# Altium integrated library Analog Devices Switches and Multiplexers Analog Switches.IntLib: 575 symbols (part 11 of 23)
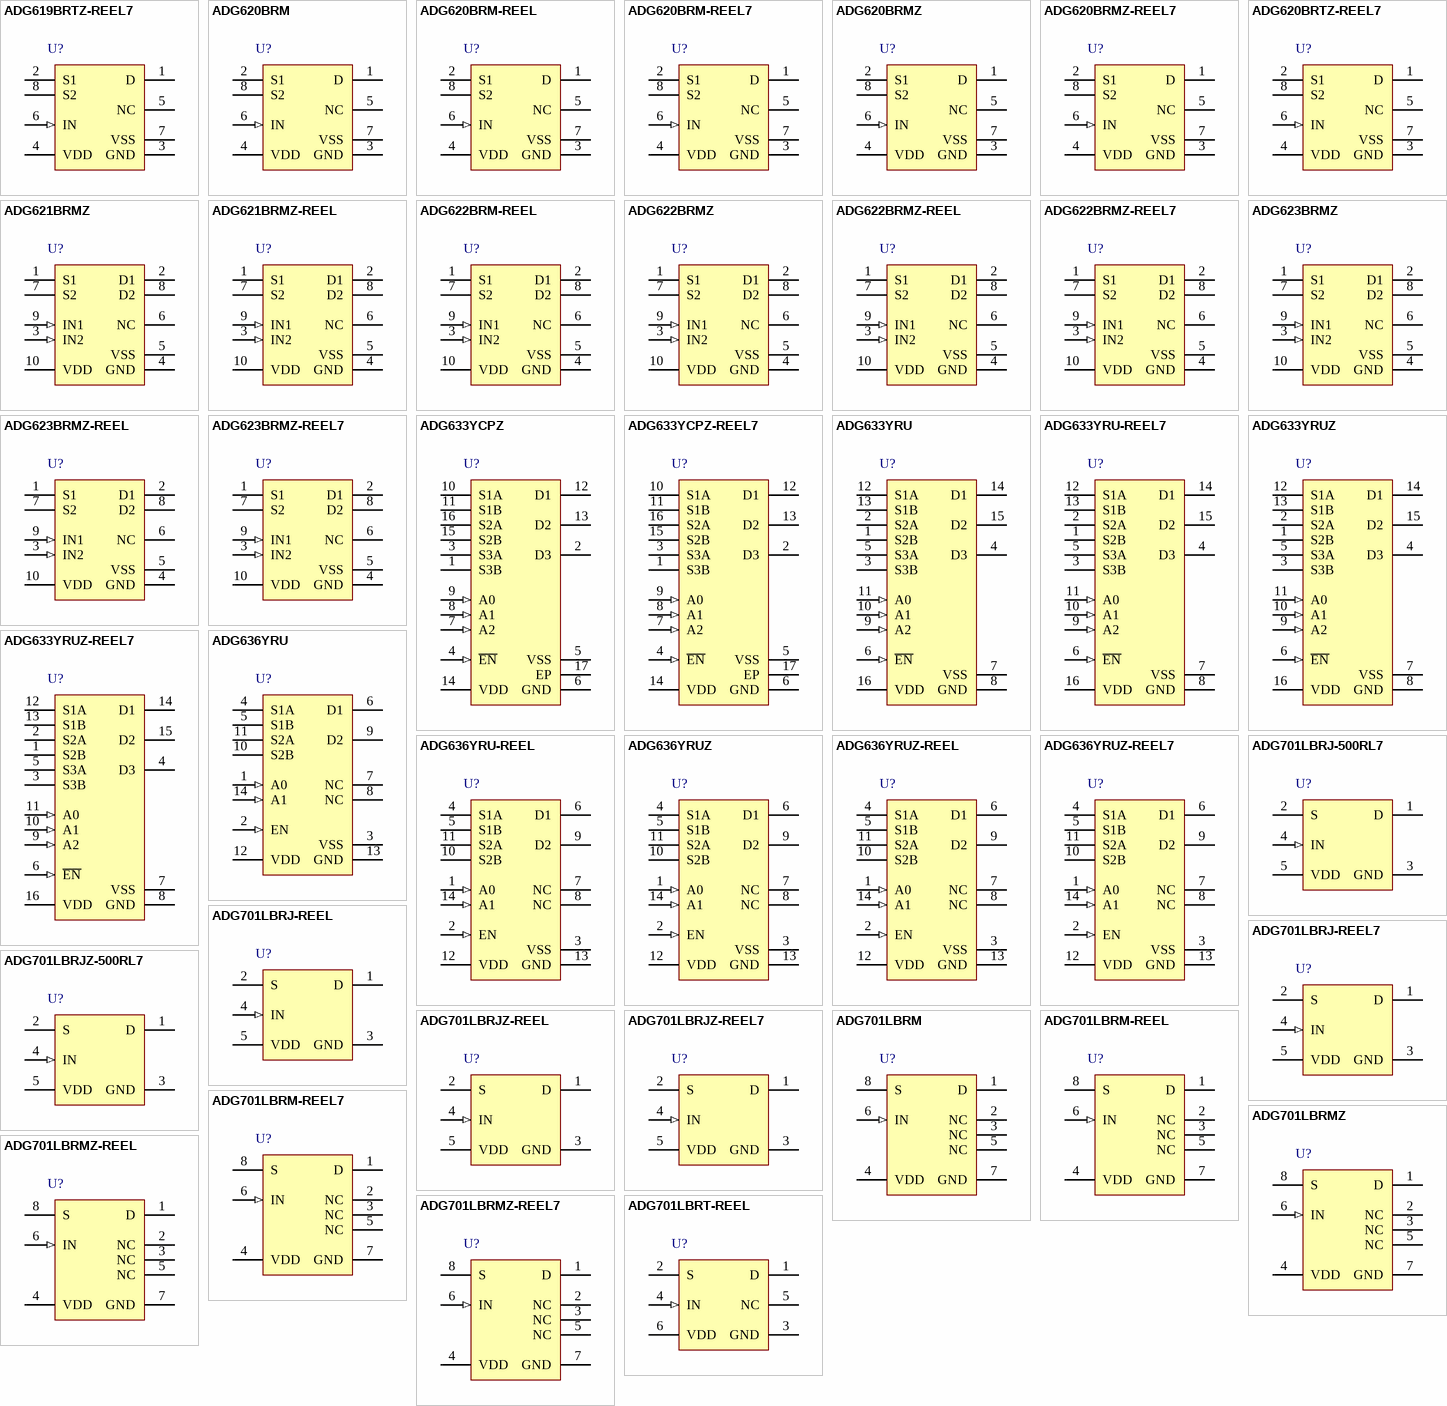
[diagram p25: symbols ADG619BRTZ-REEL7 to ADG701LBRT-REEL]

## ADG620BRM-REEL7
designator U?
CMOS, +/-5 V / +5 V, 4 Ohm, Single SPDT Switch, -40 to 85 degC, 8-pin SOP (RM-8), Reel; Manufacturer: Analog Devices; PartNumber: ADG620BRM-REEL7; Id, Is (ON): 10pA, 10pA; Max Pos Supply: 5.5V; Min Pos Supply: 2.7V; Power Dissipation: 10uW; Ron (ohms): 4; DatasheetVersion: Rev. C; PackageVersion: Aug-05; PackageReference: RM-8; PackageDescription: 8-Pin Mini Small Outline Package, Body 3 x 3 mm, Pitch 0.65 mm; Supplier 1: Digi-Key; Supplier Part Number 1: ADG620BRM-REEL7-ND; Configuration: SPDT; Is OFF: 10pA, 10pA; Packing: Reel; Mounting Technology: Surface Mount; Code_JEDEC: MO-187-AA; ComponentLink1Description: Manufacturer URL; ComponentLink1URL: http://www.analog.com/en/index.html; ComponentLink2Description: Datasheet; ComponentLink2URL: http://www.analog.com/static/imported-files/data_sheets/ADG619_620.pdf; ComponentLink3Description: Package Specification; ComponentLink3URL: http://www.analog.com/static/imported-files/packages/PKG_PDF/MSOP%28RM%29/RM_8.pdf
footprint ADI-RM-8_N (SOP, 8-Leads, Body 3x3mm, Pitch 0.65mm, IPC Medium Density)
footprint ADI-RM-8_L (SOP, 8-Leads, Body 3x3mm, Pitch 0.65mm, IPC High Density)
footprint ADI-RM-8_M (SOP, 8-Leads, Body 3x3mm, Pitch 0.65mm, IPC Low Density)
pins: 1 D "Drain Terminal. Can be an input or output.", 2 S1 "Source Terminal. Can be an input or output.", 3 GND (power) "Ground (0 V) Reference.", 4 VDD (power) "Most Positive Power Supply.", 5 NC "No Connect. Not internally connected.", 6 IN (in) "Logic Control Input.", 7 VSS (power) "Most Negative Power Supply. This pin is only used in dual-supply applications and should be tied to ground in single-supply applications.", 8 S2 "Source Terminal. Can be an input or output."

## ADG620BRMZ
designator U?
CMOS, +/-5 V / +5 V, 4 Ohm, Single SPDT Switch, -40 to 85 degC, 8-pin SOP (RM-8), Tube; Manufacturer: Analog Devices; PartNumber: ADG620BRMZ; Id, Is (ON): 10pA, 10pA; Max Pos Supply: 5.5V; Min Pos Supply: 2.7V; Power Dissipation: 10uW; Ron (ohms): 4; DatasheetVersion: Rev. C; PackageVersion: Aug-05; PackageReference: RM-8; PackageDescription: 8-Pin Mini Small Outline Package, Body 3 x 3 mm, Pitch 0.65 mm; Supplier 1: Digi-Key; Supplier Part Number 1: ADG620BRMZ-ND; Supplier 2: Farnell; Supplier Part Number 2: 1438889; Supplier 3: Newark; Supplier Part Number 3: 12M7816; Configuration: SPDT; Is OFF: 10pA, 10pA; Packing: Tube; Mounting Technology: Surface Mount; Code_JEDEC: MO-187-AA; ComponentLink1Description: Manufacturer URL; ComponentLink1URL: http://www.analog.com/en/index.html; ComponentLink2Description: Datasheet; ComponentLink2URL: http://www.analog.com/static/imported-files/data_sheets/ADG619_620.pdf; ComponentLink3Description: Package Specification; ComponentLink3URL: http://www.analog.com/static/imported-files/packages/PKG_PDF/MSOP%28RM%29/RM_8.pdf
footprint ADI-RM-8_N (SOP, 8-Leads, Body 3x3mm, Pitch 0.65mm, IPC Medium Density)
footprint ADI-RM-8_L (SOP, 8-Leads, Body 3x3mm, Pitch 0.65mm, IPC High Density)
footprint ADI-RM-8_M (SOP, 8-Leads, Body 3x3mm, Pitch 0.65mm, IPC Low Density)
pins: 1 D "Drain Terminal. Can be an input or output.", 2 S1 "Source Terminal. Can be an input or output.", 3 GND (power) "Ground (0 V) Reference.", 4 VDD (power) "Most Positive Power Supply.", 5 NC "No Connect. Not internally connected.", 6 IN (in) "Logic Control Input.", 7 VSS (power) "Most Negative Power Supply. This pin is only used in dual-supply applications and should be tied to ground in single-supply applications.", 8 S2 "Source Terminal. Can be an input or output."

## ADG620BRMZ-REEL7
designator U?
CMOS, +/-5 V / +5 V, 4 Ohm, Single SPDT Switch, -40 to 85 degC, 8-pin SOP (RM-8), Reel; Manufacturer: Analog Devices; PartNumber: ADG620BRMZ-REEL7; Id, Is (ON): 10pA, 10pA; Max Pos Supply: 5.5V; Min Pos Supply: 2.7V; Power Dissipation: 10uW; Ron (ohms): 4; DatasheetVersion: Rev. C; PackageVersion: Aug-05; PackageReference: RM-8; PackageDescription: 8-Pin Mini Small Outline Package, Body 3 x 3 mm, Pitch 0.65 mm; Supplier 1: Digi-Key; Supplier Part Number 1: ADG620BRMZ-REEL7-ND; Supplier 2: Newark; Supplier Part Number 2: 61M3940; Configuration: SPDT; Is OFF: 10pA, 10pA; Packing: Reel; Mounting Technology: Surface Mount; Code_JEDEC: MO-187-AA; ComponentLink1Description: Manufacturer URL; ComponentLink1URL: http://www.analog.com/en/index.html; ComponentLink2Description: Datasheet; ComponentLink2URL: http://www.analog.com/static/imported-files/data_sheets/ADG619_620.pdf; ComponentLink3Description: Package Specification; ComponentLink3URL: http://www.analog.com/static/imported-files/packages/PKG_PDF/MSOP%28RM%29/RM_8.pdf
footprint ADI-RM-8_N (SOP, 8-Leads, Body 3x3mm, Pitch 0.65mm, IPC Medium Density)
footprint ADI-RM-8_L (SOP, 8-Leads, Body 3x3mm, Pitch 0.65mm, IPC High Density)
footprint ADI-RM-8_M (SOP, 8-Leads, Body 3x3mm, Pitch 0.65mm, IPC Low Density)
pins: 1 D "Drain Terminal. Can be an input or output.", 2 S1 "Source Terminal. Can be an input or output.", 3 GND (power) "Ground (0 V) Reference.", 4 VDD (power) "Most Positive Power Supply.", 5 NC "No Connect. Not internally connected.", 6 IN (in) "Logic Control Input.", 7 VSS (power) "Most Negative Power Supply. This pin is only used in dual-supply applications and should be tied to ground in single-supply applications.", 8 S2 "Source Terminal. Can be an input or output."

## ADG620BRTZ-REEL7
designator U?
CMOS, +/-5 V / +5 V, 4 Ohm, Single SPDT Switch, -40 to 85 degC, 8-pin SOT (RJ-8), Reel; Manufacturer: Analog Devices; PartNumber: ADG620BRTZ-REEL7; Id, Is (ON): 10pA, 10pA; Max Pos Supply: 5.5V; Min Pos Supply: 2.7V; Power Dissipation: 10uW; Ron (ohms): 4; DatasheetVersion: Rev. C; PackageVersion: 121608-A, 12/2008; PackageReference: RJ-8; PackageDescription: 8-Pin Small Outline Transistor Package, Body 2.9 x 1.6 mm, Pitch 0.65 mm; Supplier 1: Digi-Key; Supplier Part Number 1: ADG620BRTZ-REEL7TR-ND; Supplier 2: Digi-Key; Supplier Part Number 2: ADG620BRTZ-REEL7CT-ND; Supplier 3: Digi-Key; Supplier Part Number 3: ADG620BRTZ-REEL7DKR-ND; Supplier 4: Newark; Supplier Part Number 4: 12M7817; Configuration: SPDT; Is OFF: 10pA, 10pA; Packing: Reel; Mounting Technology: Surface Mount; Code_JEDEC: MO-178-BA; ComponentLink1Description: Manufacturer URL; ComponentLink1URL: http://www.analog.com/en/index.html; ComponentLink2Description: Datasheet; ComponentLink2URL: http://www.analog.com/static/imported-files/data_sheets/ADG619_620.pdf; ComponentLink3Description: Package Specification; ComponentLink3URL: http://www.analog.com/static/imported-files/packages/PKG_PDF/SOT-23(RJ)/RJ_8.pdf
footprint ADI-RJ-8_V (SOT23, 8-Leads, Body 2.9x1.6mm, Pitch 0.65mm)
pins: 1 D "Drain Terminal. Can be an input or output.", 2 S1 "Source Terminal. Can be an input or output.", 3 GND (power) "Ground (0 V) Reference.", 4 VDD (power) "Most Positive Power Supply.", 5 NC "No Connect. Not internally connected.", 6 IN (in) "Logic Control Input.", 7 VSS (power) "Most Negative Power Supply. This pin is only used in dual-supply applications and should be tied to ground in single-supply applications.", 8 S2 "Source Terminal. Can be an input or output."

## ADG621BRMZ
designator U?
CMOS +/-5 V / +5 V, 4 Ohm Dual SPST Switch, -40 to 85 degC, 10-pin SOP (RM-10), Tube; Manufacturer: Analog Devices; PartNumber: ADG621BRMZ; Id, Is (ON): 10pA, 10pA; Max Pos Supply: 5.5V; Min Pos Supply: 2.7V; Ron (ohms): 4; DatasheetVersion: Rev. B; PackageVersion: Aug-05; PackageReference: RM-10; PackageDescription: 10-Pin Mini Small Outline Package, Body 3 x 3 mm, Pitch 0.5 mm; Supplier 1: Digi-Key; Supplier Part Number 1: ADG621BRMZ-ND; Supplier 2: Farnell; Supplier Part Number 2: 1438891; Supplier 3: Newark; Supplier Part Number 3: 59K1443; Supplier 4: Mouser; Supplier Part Number 4: 584-ADG621BRMZ; Configuration: SPST; Is OFF: 10pA, 10pA; Packing: Tube; Mounting Technology: Surface Mount; Code_JEDEC: MO-187-BA; ComponentLink1Description: Manufacturer URL; ComponentLink1URL: http://www.analog.com/en/index.html; ComponentLink2Description: Datasheet; ComponentLink2URL: http://www.analog.com/static/imported-files/data_sheets/ADG621_622_623.pdf; ComponentLink3Description: Package Specification; ComponentLink3URL: http://www.analog.com/static/imported-files/packages/PKG_PDF/MSOP%28RM%29/RM_10.pdf
footprint ADI-RM-10_N (SOP, 10-Leads, Body 3x3mm, Pitch 0.5mm, IPC Medium Density)
footprint ADI-RM-10_L (SOP, 10-Leads, Body 3x3mm, Pitch 0.5mm, IPC High Density)
footprint ADI-RM-10_M (SOP, 10-Leads, Body 3x3mm, Pitch 0.5mm, IPC Low Density)
pins: 1 S1 "Source Terminal. May be an input or an output.", 2 D1 "Drain Terminal. May be an input or an output.", 3 IN2 (in) "Control Input.", 4 GND (power) "Ground (0 V) Reference.", 5 VSS (power) "Most Negative Power Supply in a Dual-Supply Application. In single-supply applications, this should be tied to ground at the device.", 6 NC "No Connect.", 7 S2 "Source Terminal. May be an input or an output.", 8 D2 "Drain Terminal. May be an input or an output.", 9 IN1 (in) "Control Input.", 10 VDD (power) "Most Positive Power Supply Potential."

## ADG621BRMZ-REEL
designator U?
CMOS +/-5 V / +5 V, 4 Ohm Dual SPST Switch, -40 to 85 degC, 10-pin SOP (RM-10), Reel; Manufacturer: Analog Devices; PartNumber: ADG621BRMZ-REEL; Id, Is (ON): 10pA, 10pA; Max Pos Supply: 5.5V; Min Pos Supply: 2.7V; Ron (ohms): 4; DatasheetVersion: Rev. B; PackageVersion: Aug-05; PackageReference: RM-10; PackageDescription: 10-Pin Mini Small Outline Package, Body 3 x 3 mm, Pitch 0.5 mm; Supplier 1: Digi-Key; Supplier Part Number 1: ADG621BRMZ-REEL-ND; Supplier 2: Newark; Supplier Part Number 2: 59K1444; Supplier 3: Mouser; Supplier Part Number 3: 584-ADG621BRMZ-R; Configuration: SPST; Is OFF: 10pA, 10pA; Packing: Reel; Mounting Technology: Surface Mount; Code_JEDEC: MO-187-BA; ComponentLink1Description: Manufacturer URL; ComponentLink1URL: http://www.analog.com/en/index.html; ComponentLink2Description: Datasheet; ComponentLink2URL: http://www.analog.com/static/imported-files/data_sheets/ADG621_622_623.pdf; ComponentLink3Description: Package Specification; ComponentLink3URL: http://www.analog.com/static/imported-files/packages/PKG_PDF/MSOP%28RM%29/RM_10.pdf
footprint ADI-RM-10_N (SOP, 10-Leads, Body 3x3mm, Pitch 0.5mm, IPC Medium Density)
footprint ADI-RM-10_L (SOP, 10-Leads, Body 3x3mm, Pitch 0.5mm, IPC High Density)
footprint ADI-RM-10_M (SOP, 10-Leads, Body 3x3mm, Pitch 0.5mm, IPC Low Density)
pins: 1 S1 "Source Terminal. May be an input or an output.", 2 D1 "Drain Terminal. May be an input or an output.", 3 IN2 (in) "Control Input.", 4 GND (power) "Ground (0 V) Reference.", 5 VSS (power) "Most Negative Power Supply in a Dual-Supply Application. In single-supply applications, this should be tied to ground at the device.", 6 NC "No Connect.", 7 S2 "Source Terminal. May be an input or an output.", 8 D2 "Drain Terminal. May be an input or an output.", 9 IN1 (in) "Control Input.", 10 VDD (power) "Most Positive Power Supply Potential."

## ADG622BRM-REEL
designator U?
CMOS +/-5 V / +5 V, 4 Ohm Dual SPST Switch, -40 to 85 degC, 10-pin SOP (RM-10), Reel; Manufacturer: Analog Devices; PartNumber: ADG622BRM-REEL; Id, Is (ON): 10pA, 10pA; Max Pos Supply: 5.5V; Min Pos Supply: 2.7V; Power Dissipation: 10uW; Ron (ohms): 4; DatasheetVersion: Rev. B; PackageVersion: Aug-05; PackageReference: RM-10; PackageDescription: 10-Pin Mini Small Outline Package, Body 3 x 3 mm, Pitch 0.5 mm; Configuration: SPST; Is OFF: 10pA, 10pA; Packing: Reel; Mounting Technology: Surface Mount; Code_JEDEC: MO-187-BA; ComponentLink1Description: Manufacturer URL; ComponentLink1URL: http://www.analog.com/en/index.html; ComponentLink2Description: Datasheet; ComponentLink2URL: http://www.analog.com/static/imported-files/data_sheets/ADG621_622_623.pdf; ComponentLink3Description: Package Specification; ComponentLink3URL: http://www.analog.com/static/imported-files/packages/PKG_PDF/MSOP%28RM%29/RM_10.pdf
footprint ADI-RM-10_N (SOP, 10-Leads, Body 3x3mm, Pitch 0.5mm, IPC Medium Density)
footprint ADI-RM-10_L (SOP, 10-Leads, Body 3x3mm, Pitch 0.5mm, IPC High Density)
footprint ADI-RM-10_M (SOP, 10-Leads, Body 3x3mm, Pitch 0.5mm, IPC Low Density)
pins: 1 S1 "Source Terminal. May be an input or an output.", 2 D1 "Drain Terminal. May be an input or an output.", 3 IN2 (in) "Control Input.", 4 GND (power) "Ground (0 V) Reference.", 5 VSS (power) "Most Negative Power Supply in a Dual-Supply Application. In single-supply applications, this should be tied to ground at the device.", 6 NC "No Connect.", 7 S2 "Source Terminal. May be an input or an output.", 8 D2 "Drain Terminal. May be an input or an output.", 9 IN1 (in) "Control Input.", 10 VDD (power) "Most Positive Power Supply Potential."

## ADG622BRMZ
designator U?
CMOS +/-5 V / +5 V, 4 Ohm Dual SPST Switch, -40 to 85 degC, 10-pin SOP (RM-10), Tube; Manufacturer: Analog Devices; PartNumber: ADG622BRMZ; Id, Is (ON): 10pA, 10pA; Max Pos Supply: 5.5V; Min Pos Supply: 2.7V; Power Dissipation: 10uW; Ron (ohms): 4; DatasheetVersion: Rev. B; PackageVersion: Aug-05; PackageReference: RM-10; PackageDescription: 10-Pin Mini Small Outline Package, Body 3 x 3 mm, Pitch 0.5 mm; Supplier 1: Digi-Key; Supplier Part Number 1: ADG622BRMZ-ND; Supplier 2: Farnell; Supplier Part Number 2: 1438892; Supplier 3: Newark; Supplier Part Number 3: 59K1445; Configuration: SPST; Is OFF: 10pA, 10pA; Packing: Tube; Mounting Technology: Surface Mount; Code_JEDEC: MO-187-BA; ComponentLink1Description: Manufacturer URL; ComponentLink1URL: http://www.analog.com/en/index.html; ComponentLink2Description: Datasheet; ComponentLink2URL: http://www.analog.com/static/imported-files/data_sheets/ADG621_622_623.pdf; ComponentLink3Description: Package Specification; ComponentLink3URL: http://www.analog.com/static/imported-files/packages/PKG_PDF/MSOP%28RM%29/RM_10.pdf
footprint ADI-RM-10_N (SOP, 10-Leads, Body 3x3mm, Pitch 0.5mm, IPC Medium Density)
footprint ADI-RM-10_L (SOP, 10-Leads, Body 3x3mm, Pitch 0.5mm, IPC High Density)
footprint ADI-RM-10_M (SOP, 10-Leads, Body 3x3mm, Pitch 0.5mm, IPC Low Density)
pins: 1 S1 "Source Terminal. May be an input or an output.", 2 D1 "Drain Terminal. May be an input or an output.", 3 IN2 (in) "Control Input.", 4 GND (power) "Ground (0 V) Reference.", 5 VSS (power) "Most Negative Power Supply in a Dual-Supply Application. In single-supply applications, this should be tied to ground at the device.", 6 NC "No Connect.", 7 S2 "Source Terminal. May be an input or an output.", 8 D2 "Drain Terminal. May be an input or an output.", 9 IN1 (in) "Control Input.", 10 VDD (power) "Most Positive Power Supply Potential."

## ADG622BRMZ-REEL
designator U?
CMOS +/-5 V / +5 V, 4 Ohm Dual SPST Switch, -40 to 85 degC, 10-pin SOP (RM-10), Reel; Manufacturer: Analog Devices; PartNumber: ADG622BRMZ-REEL; Id, Is (ON): 10pA, 10pA; Max Pos Supply: 5.5V; Min Pos Supply: 2.7V; Power Dissipation: 10uW; Ron (ohms): 4; DatasheetVersion: Rev. B; PackageVersion: Aug-05; PackageReference: RM-10; PackageDescription: 10-Pin Mini Small Outline Package, Body 3 x 3 mm, Pitch 0.5 mm; Supplier 1: Digi-Key; Supplier Part Number 1: ADG622BRMZ-REEL-ND; Supplier 2: Newark; Supplier Part Number 2: 59K1446; Configuration: SPST; Is OFF: 10pA, 10pA; Packing: Reel; Mounting Technology: Surface Mount; Code_JEDEC: MO-187-BA; ComponentLink1Description: Manufacturer URL; ComponentLink1URL: http://www.analog.com/en/index.html; ComponentLink2Description: Datasheet; ComponentLink2URL: http://www.analog.com/static/imported-files/data_sheets/ADG621_622_623.pdf; ComponentLink3Description: Package Specification; ComponentLink3URL: http://www.analog.com/static/imported-files/packages/PKG_PDF/MSOP%28RM%29/RM_10.pdf
footprint ADI-RM-10_N (SOP, 10-Leads, Body 3x3mm, Pitch 0.5mm, IPC Medium Density)
footprint ADI-RM-10_L (SOP, 10-Leads, Body 3x3mm, Pitch 0.5mm, IPC High Density)
footprint ADI-RM-10_M (SOP, 10-Leads, Body 3x3mm, Pitch 0.5mm, IPC Low Density)
pins: 1 S1 "Source Terminal. May be an input or an output.", 2 D1 "Drain Terminal. May be an input or an output.", 3 IN2 (in) "Control Input.", 4 GND (power) "Ground (0 V) Reference.", 5 VSS (power) "Most Negative Power Supply in a Dual-Supply Application. In single-supply applications, this should be tied to ground at the device.", 6 NC "No Connect.", 7 S2 "Source Terminal. May be an input or an output.", 8 D2 "Drain Terminal. May be an input or an output.", 9 IN1 (in) "Control Input.", 10 VDD (power) "Most Positive Power Supply Potential."

## ADG622BRMZ-REEL7
designator U?
CMOS +/-5 V / +5 V, 4 Ohm Dual SPST Switch, -40 to 85 degC, 10-pin SOP (RM-10), Reel; Manufacturer: Analog Devices; PartNumber: ADG622BRMZ-REEL7; Id, Is (ON): 10pA, 10pA; Max Pos Supply: 5.5V; Min Pos Supply: 2.7V; Power Dissipation: 10uW; Ron (ohms): 4; DatasheetVersion: Rev. B; PackageVersion: Aug-05; PackageReference: RM-10; PackageDescription: 10-Pin Mini Small Outline Package, Body 3 x 3 mm, Pitch 0.5 mm; Supplier 1: Digi-Key; Supplier Part Number 1: ADG622BRMZ-REEL7-ND; Configuration: SPST; Is OFF: 10pA, 10pA; Packing: Reel; Mounting Technology: Surface Mount; Code_JEDEC: MO-187-BA; ComponentLink1Description: Manufacturer URL; ComponentLink1URL: http://www.analog.com/en/index.html; ComponentLink2Description: Datasheet; ComponentLink2URL: http://www.analog.com/static/imported-files/data_sheets/ADG621_622_623.pdf; ComponentLink3Description: Package Specification; ComponentLink3URL: http://www.analog.com/static/imported-files/packages/PKG_PDF/MSOP%28RM%29/RM_10.pdf
footprint ADI-RM-10_N (SOP, 10-Leads, Body 3x3mm, Pitch 0.5mm, IPC Medium Density)
footprint ADI-RM-10_L (SOP, 10-Leads, Body 3x3mm, Pitch 0.5mm, IPC High Density)
footprint ADI-RM-10_M (SOP, 10-Leads, Body 3x3mm, Pitch 0.5mm, IPC Low Density)
pins: 1 S1 "Source Terminal. May be an input or an output.", 2 D1 "Drain Terminal. May be an input or an output.", 3 IN2 (in) "Control Input.", 4 GND (power) "Ground (0 V) Reference.", 5 VSS (power) "Most Negative Power Supply in a Dual-Supply Application. In single-supply applications, this should be tied to ground at the device.", 6 NC "No Connect.", 7 S2 "Source Terminal. May be an input or an output.", 8 D2 "Drain Terminal. May be an input or an output.", 9 IN1 (in) "Control Input.", 10 VDD (power) "Most Positive Power Supply Potential."

## ADG623BRMZ
designator U?
CMOS +/-5 V / +5 V, 4 Ohm Dual SPST Switch, -40 to 85 degC, 10-pin SOP (RM-10), Tube; Manufacturer: Analog Devices; PartNumber: ADG623BRMZ; Id, Is (ON): 10pA, 10pA; Max Pos Supply: 5.5V; Min Pos Supply: 2.7V; Power Dissipation: 10uW; Ron (ohms): 4; DatasheetVersion: Rev. B; PackageVersion: Aug-05; PackageReference: RM-10; PackageDescription: 10-Pin Mini Small Outline Package, Body 3 x 3 mm, Pitch 0.5 mm; Supplier 1: Digi-Key; Supplier Part Number 1: ADG623BRMZ-ND; Supplier 2: Farnell; Supplier Part Number 2: 1438893; Supplier 3: Newark; Supplier Part Number 3: 59K1448; Configuration: SPST; Is OFF: 10pA, 10pA; Packing: Tube; Mounting Technology: Surface Mount; Code_JEDEC: MO-187-BA; ComponentLink1Description: Manufacturer URL; ComponentLink1URL: http://www.analog.com/en/index.html; ComponentLink2Description: Datasheet; ComponentLink2URL: http://www.analog.com/static/imported-files/data_sheets/ADG621_622_623.pdf; ComponentLink3Description: Package Specification; ComponentLink3URL: http://www.analog.com/static/imported-files/packages/PKG_PDF/MSOP%28RM%29/RM_10.pdf
footprint ADI-RM-10_N (SOP, 10-Leads, Body 3x3mm, Pitch 0.5mm, IPC Medium Density)
footprint ADI-RM-10_L (SOP, 10-Leads, Body 3x3mm, Pitch 0.5mm, IPC High Density)
footprint ADI-RM-10_M (SOP, 10-Leads, Body 3x3mm, Pitch 0.5mm, IPC Low Density)
pins: 1 S1 "Source Terminal. May be an input or an output.", 2 D1 "Drain Terminal. May be an input or an output.", 3 IN2 (in) "Control Input.", 4 GND (power) "Ground (0 V) Reference.", 5 VSS (power) "Most Negative Power Supply in a Dual-Supply Application. In single-supply applications, this should be tied to ground at the device.", 6 NC "No Connect.", 7 S2 "Source Terminal. May be an input or an output.", 8 D2 "Drain Terminal. May be an input or an output.", 9 IN1 (in) "Control Input.", 10 VDD (power) "Most Positive Power Supply Potential."

## ADG623BRMZ-REEL
designator U?
CMOS +/-5 V / +5 V, 4 Ohm Dual SPST Switch, -40 to 85 degC, 10-pin SOP (RM-10), Reel; Manufacturer: Analog Devices; PartNumber: ADG623BRMZ-REEL; Id, Is (ON): 10pA, 10pA; Max Pos Supply: 5.5V; Min Pos Supply: 2.7V; Power Dissipation: 10uW; Ron (ohms): 4; DatasheetVersion: Rev. B; PackageVersion: Aug-05; PackageReference: RM-10; PackageDescription: 10-Pin Mini Small Outline Package, Body 3 x 3 mm, Pitch 0.5 mm; Supplier 1: Digi-Key; Supplier Part Number 1: ADG623BRMZ-REEL-ND; Configuration: SPST; Is OFF: 10pA, 10pA; Packing: Reel; Mounting Technology: Surface Mount; Code_JEDEC: MO-187-BA; ComponentLink1Description: Manufacturer URL; ComponentLink1URL: http://www.analog.com/en/index.html; ComponentLink2Description: Datasheet; ComponentLink2URL: http://www.analog.com/static/imported-files/data_sheets/ADG621_622_623.pdf; ComponentLink3Description: Package Specification; ComponentLink3URL: http://www.analog.com/static/imported-files/packages/PKG_PDF/MSOP%28RM%29/RM_10.pdf
footprint ADI-RM-10_N (SOP, 10-Leads, Body 3x3mm, Pitch 0.5mm, IPC Medium Density)
footprint ADI-RM-10_L (SOP, 10-Leads, Body 3x3mm, Pitch 0.5mm, IPC High Density)
footprint ADI-RM-10_M (SOP, 10-Leads, Body 3x3mm, Pitch 0.5mm, IPC Low Density)
pins: 1 S1 "Source Terminal. May be an input or an output.", 2 D1 "Drain Terminal. May be an input or an output.", 3 IN2 (in) "Control Input.", 4 GND (power) "Ground (0 V) Reference.", 5 VSS (power) "Most Negative Power Supply in a Dual-Supply Application. In single-supply applications, this should be tied to ground at the device.", 6 NC "No Connect.", 7 S2 "Source Terminal. May be an input or an output.", 8 D2 "Drain Terminal. May be an input or an output.", 9 IN1 (in) "Control Input.", 10 VDD (power) "Most Positive Power Supply Potential."

## ADG623BRMZ-REEL7
designator U?
CMOS +/-5 V / +5 V, 4 Ohm Dual SPST Switch, -40 to 85 degC, 10-pin SOP (RM-10), Reel; Manufacturer: Analog Devices; PartNumber: ADG623BRMZ-REEL7; Id, Is (ON): 10pA, 10pA; Max Pos Supply: 5.5V; Min Pos Supply: 2.7V; Power Dissipation: 10uW; Ron (ohms): 4; DatasheetVersion: Rev. B; PackageVersion: Aug-05; PackageReference: RM-10; PackageDescription: 10-Pin Mini Small Outline Package, Body 3 x 3 mm, Pitch 0.5 mm; Supplier 1: Digi-Key; Supplier Part Number 1: ADG623BRMZ-REEL7-ND; Supplier 2: Newark; Supplier Part Number 2: 59K1450; Configuration: SPST; Is OFF: 10pA, 10pA; Packing: Reel; Mounting Technology: Surface Mount; Code_JEDEC: MO-187-BA; ComponentLink1Description: Manufacturer URL; ComponentLink1URL: http://www.analog.com/en/index.html; ComponentLink2Description: Datasheet; ComponentLink2URL: http://www.analog.com/static/imported-files/data_sheets/ADG621_622_623.pdf; ComponentLink3Description: Package Specification; ComponentLink3URL: http://www.analog.com/static/imported-files/packages/PKG_PDF/MSOP%28RM%29/RM_10.pdf
footprint ADI-RM-10_N (SOP, 10-Leads, Body 3x3mm, Pitch 0.5mm, IPC Medium Density)
footprint ADI-RM-10_L (SOP, 10-Leads, Body 3x3mm, Pitch 0.5mm, IPC High Density)
footprint ADI-RM-10_M (SOP, 10-Leads, Body 3x3mm, Pitch 0.5mm, IPC Low Density)
pins: 1 S1 "Source Terminal. May be an input or an output.", 2 D1 "Drain Terminal. May be an input or an output.", 3 IN2 (in) "Control Input.", 4 GND (power) "Ground (0 V) Reference.", 5 VSS (power) "Most Negative Power Supply in a Dual-Supply Application. In single-supply applications, this should be tied to ground at the device.", 6 NC "No Connect.", 7 S2 "Source Terminal. May be an input or an output.", 8 D2 "Drain Terminal. May be an input or an output.", 9 IN1 (in) "Control Input.", 10 VDD (power) "Most Positive Power Supply Potential."

## ADG633YCPZ
designator U?
CMOS, +/-5 V / 5 V / 3 V, Triple SPDT Switches, 52 Ohm Ron, 16-pin QFN (CP-16-5), Tray; Manufacturer: Analog Devices; PartNumber: ADG633YCPZ; # Sw Functions: 3; Max Neg Supply: -5.5V; Max Pos Supply: +5.5V; Ron (ohms): 52, 85; t ON: 70ns, 100ns; DatasheetVersion: Rev. A; PackageReference: CP-16-5; PackageDescription: 16-Pin Lead Frame Chip Scale Package, Body 4 x 4 mm, Pitch 0.65 mm; Supplier 1: Digi-Key; Supplier Part Number 1: ADG633YCPZ-ND; Supplier 2: Newark; Supplier Part Number 2: 12M7818; Supplier 3: Mouser; Supplier Part Number 3: 584-ADG633YCPZ; Configuration: SPDT; Packing: Tray; Mounting Technology: Surface Mount; ComponentLink1Description: Manufacturer URL; ComponentLink1URL: http://www.analog.com/en/index.html; ComponentLink2Description: Datasheet; ComponentLink2URL: http://www.analog.com/static/imported-files/data_sheets/ADG633.pdf; ComponentLink3Description: Package Specification; ComponentLink3URL: http://www.analog.com/static/imported-files/packages/4501839832215095857CP_16_5.pdf
footprint ADI-CP-16-5_N (QFN, 16-Leads, Body 4x4mm, Pitch 0.65mm, Thermal Pad 1.76x1.76mm, IPC Medium Density)
footprint ADI-CP-16-5_L (QFN, 16-Leads, Body 4x4mm, Pitch 0.65mm, Thermal Pad 1.76x1.76mm, IPC High Density)
footprint ADI-CP-16-5_M (QFN, 16-Leads, Body 4x4mm, Pitch 0.65mm, Thermal Pad 1.76x1.76mm, IPC Low Density)
pins: 1 S3B "Source Terminal of Multiplexer 3. Can be an input or output.", 2 D3 "Drain Terminal of Multiplexer 3. Can be an input or output.", 3 S3A "Source Terminal of Multiplexer 3. Can be an input or output.", 4 ~{EN} (in) "Digital Control Input. Disables all multiplexers when set high.", 5 VSS (power) "Most Negative Power Supply Terminal. Tie this pin to GND when using the device with single-supply voltages.", 6 GND (power) "Ground (0 V) Reference.", 7 A2 (in) "Digital Control Input.", 8 A1 (in) "Digital Control Input.", 9 A0 (in) "Digital Control Input.", 10 S1A "Source Terminal of Multiplexer 1. Can be an input or output.", 11 S1B "Source Terminal of Multiplexer 1. Can be an input or output.", 12 D1 "Drain Terminal of Multiplexer 1. Can be an input or output.", 13 D2 "Drain Terminal of Multiplexer 2. Can be an input or output.", 14 VDD (power) "Most Positive Power Supply Terminal.", 15 S2B "Source Terminal of Multiplexer 2. Can be an input or output.", 16 S2A "Source Terminal of Multiplexer 2. Can be an input or output.", 17 EP (power) "Exposed Paddle. The exposed paddle can be left floating or be tied to VDD, VSS, or GND."

## ADG633YCPZ-REEL7
designator U?
CMOS, +/-5 V / 5 V / 3 V, Triple SPDT Switches, 52 Ohm Ron, 16-pin QFN (CP-16-5), Reel; Manufacturer: Analog Devices; PartNumber: ADG633YCPZ-REEL7; # Sw Functions: 3; Max Neg Supply: -5.5V; Max Pos Supply: +5.5V; Ron (ohms): 52, 85; t ON: 70ns, 100ns; DatasheetVersion: Rev. A; PackageReference: CP-16-5; PackageDescription: 16-Pin Lead Frame Chip Scale Package, Body 4 x 4 mm, Pitch 0.65 mm; Supplier 1: Digi-Key; Supplier Part Number 1: ADG633YCPZ-REEL7TR-ND; Supplier 2: Digi-Key; Supplier Part Number 2: ADG633YCPZ-REEL7CT-ND; Supplier 3: Digi-Key; Supplier Part Number 3: ADG633YCPZ-REEL7DKR-ND; Supplier 4: Mouser; Supplier Part Number 4: 584-ADG633YCPZ-R7; Configuration: SPDT; Packing: Reel; Mounting Technology: Surface Mount; ComponentLink1Description: Manufacturer URL; ComponentLink1URL: http://www.analog.com/en/index.html; ComponentLink2Description: Datasheet; ComponentLink2URL: http://www.analog.com/static/imported-files/data_sheets/ADG633.pdf; ComponentLink3Description: Package Specification; ComponentLink3URL: http://www.analog.com/static/imported-files/packages/4501839832215095857CP_16_5.pdf
footprint ADI-CP-16-5_N (QFN, 16-Leads, Body 4x4mm, Pitch 0.65mm, Thermal Pad 1.76x1.76mm, IPC Medium Density)
footprint ADI-CP-16-5_L (QFN, 16-Leads, Body 4x4mm, Pitch 0.65mm, Thermal Pad 1.76x1.76mm, IPC High Density)
footprint ADI-CP-16-5_M (QFN, 16-Leads, Body 4x4mm, Pitch 0.65mm, Thermal Pad 1.76x1.76mm, IPC Low Density)
pins: 1 S3B "Source Terminal of Multiplexer 3. Can be an input or output.", 2 D3 "Drain Terminal of Multiplexer 3. Can be an input or output.", 3 S3A "Source Terminal of Multiplexer 3. Can be an input or output.", 4 ~{EN} (in) "Digital Control Input. Disables all multiplexers when set high.", 5 VSS (power) "Most Negative Power Supply Terminal. Tie this pin to GND when using the device with single-supply voltages.", 6 GND (power) "Ground (0 V) Reference.", 7 A2 (in) "Digital Control Input.", 8 A1 (in) "Digital Control Input.", 9 A0 (in) "Digital Control Input.", 10 S1A "Source Terminal of Multiplexer 1. Can be an input or output.", 11 S1B "Source Terminal of Multiplexer 1. Can be an input or output.", 12 D1 "Drain Terminal of Multiplexer 1. Can be an input or output.", 13 D2 "Drain Terminal of Multiplexer 2. Can be an input or output.", 14 VDD (power) "Most Positive Power Supply Terminal.", 15 S2B "Source Terminal of Multiplexer 2. Can be an input or output.", 16 S2A "Source Terminal of Multiplexer 2. Can be an input or output.", 17 EP (power) "Exposed Paddle. The exposed paddle can be left floating or be tied to VDD, VSS, or GND."

## ADG633YRU
designator U?
CMOS, +/-5 V / 5 V / 3 V, Triple SPDT Switches, 52 Ohm Ron, 16-pin SOP (RU-16), Tube; Manufacturer: Analog Devices; PartNumber: ADG633YRU; # Sw Functions: 3; Max Neg Supply: -5.5V; Max Pos Supply: +5.5V; Ron (ohms): 52, 85; t ON: 70ns, 100ns; DatasheetVersion: Rev. A; PackageVersion: Nov-02; PackageReference: RU-16; PackageDescription: 16-Pin Thin Shrink Small Outline Package, Body 5 x 4.4 mm, Pitch 0.65 mm; Supplier 1: Digi-Key; Supplier Part Number 1: ADG633YRU-ND; Supplier 2: Newark; Supplier Part Number 2: 53H7092; Supplier 3: Mouser; Supplier Part Number 3: 584-ADG633YRU; Configuration: SPDT; Packing: Tube; Mounting Technology: Surface Mount; Code_JEDEC: MO-153AB; ComponentLink1Description: Manufacturer URL; ComponentLink1URL: http://www.analog.com/en/index.html; ComponentLink2Description: Datasheet; ComponentLink2URL: http://www.analog.com/static/imported-files/data_sheets/ADG633.pdf; ComponentLink3Description: Package Specification; ComponentLink3URL: http:/www.analog.com/static/imported-files/packages/36244347913743854010197452789RU16.pdf
footprint ADI-RU-16_N (SOP, 16-Leads, Body 5x4.4mm, Pitch 0.65mm, IPC Medium Density)
footprint ADI-RU-16_L (SOP, 16-Leads, Body 5x4.4mm, Pitch 0.65mm, IPC High Density)
footprint ADI-RU-16_M (SOP, 16-Leads, Body 5x4.4mm, Pitch 0.65mm, IPC Low Density)
pins: 1 S2B "Source Terminal of Multiplexer 2. Can be an input or output.", 2 S2A "Source Terminal of Multiplexer 2. Can be an input or output.", 3 S3B "Source Terminal of Multiplexer 3. Can be an input or output.", 4 D3 "Drain Terminal of Multiplexer 3. Can be an input or output.", 5 S3A "Source Terminal of Multiplexer 3. Can be an input or output.", 6 ~{EN} (in) "Digital Control Input. Disables all multiplexers when set high.", 7 VSS (power) "Most Negative Power Supply Terminal. Tie this pin to GND when using the device with single-supply voltages.", 8 GND (power) "Ground (0 V) Reference.", 9 A2 (in) "Digital Control Input.", 10 A1 (in) "Digital Control Input.", 11 A0 (in) "Digital Control Input.", 12 S1A "Source Terminal of Multiplexer 1. Can be an input or output.", 13 S1B "Source Terminal of Multiplexer 1. Can be an input or output.", 14 D1 "Drain Terminal of Multiplexer 1. Can be an input or output.", 15 D2 "Drain Terminal of Multiplexer 2. Can be an input or output.", 16 VDD (power) "Most Positive Power Supply Terminal."

## ADG633YRU-REEL7
designator U?
CMOS, +/-5 V / 5 V / 3 V, Triple SPDT Switches, 52 Ohm Ron, 16-pin SOP (RU-16), Reel; Manufacturer: Analog Devices; PartNumber: ADG633YRU-REEL7; # Sw Functions: 3; Max Neg Supply: -5.5V; Max Pos Supply: +5.5V; Ron (ohms): 52, 85; t ON: 70ns, 100ns; DatasheetVersion: Rev. A; PackageVersion: Nov-02; PackageReference: RU-16; PackageDescription: 16-Pin Thin Shrink Small Outline Package, Body 5 x 4.4 mm, Pitch 0.65 mm; Supplier 1: Digi-Key; Supplier Part Number 1: ADG633YRU-REEL7-ND; Supplier 2: Mouser; Supplier Part Number 2: 584-ADG633YRU-R7; Configuration: SPDT; Packing: Reel; Mounting Technology: Surface Mount; Code_JEDEC: MO-153AB; ComponentLink1Description: Manufacturer URL; ComponentLink1URL: http://www.analog.com/en/index.html; ComponentLink2Description: Datasheet; ComponentLink2URL: http://www.analog.com/static/imported-files/data_sheets/ADG633.pdf; ComponentLink3Description: Package Specification; ComponentLink3URL: http:/www.analog.com/static/imported-files/packages/36244347913743854010197452789RU16.pdf
footprint ADI-RU-16_N (SOP, 16-Leads, Body 5x4.4mm, Pitch 0.65mm, IPC Medium Density)
footprint ADI-RU-16_L (SOP, 16-Leads, Body 5x4.4mm, Pitch 0.65mm, IPC High Density)
footprint ADI-RU-16_M (SOP, 16-Leads, Body 5x4.4mm, Pitch 0.65mm, IPC Low Density)
pins: 1 S2B "Source Terminal of Multiplexer 2. Can be an input or output.", 2 S2A "Source Terminal of Multiplexer 2. Can be an input or output.", 3 S3B "Source Terminal of Multiplexer 3. Can be an input or output.", 4 D3 "Drain Terminal of Multiplexer 3. Can be an input or output.", 5 S3A "Source Terminal of Multiplexer 3. Can be an input or output.", 6 ~{EN} (in) "Digital Control Input. Disables all multiplexers when set high.", 7 VSS (power) "Most Negative Power Supply Terminal. Tie this pin to GND when using the device with single-supply voltages.", 8 GND (power) "Ground (0 V) Reference.", 9 A2 (in) "Digital Control Input.", 10 A1 (in) "Digital Control Input.", 11 A0 (in) "Digital Control Input.", 12 S1A "Source Terminal of Multiplexer 1. Can be an input or output.", 13 S1B "Source Terminal of Multiplexer 1. Can be an input or output.", 14 D1 "Drain Terminal of Multiplexer 1. Can be an input or output.", 15 D2 "Drain Terminal of Multiplexer 2. Can be an input or output.", 16 VDD (power) "Most Positive Power Supply Terminal."

## ADG633YRUZ
designator U?
CMOS, +/-5 V / 5 V / 3 V, Triple SPDT Switches, 52 Ohm Ron, 16-pin SOP (RU-16), Tube; Manufacturer: Analog Devices; PartNumber: ADG633YRUZ; # Sw Functions: 3; Max Neg Supply: -5.5V; Max Pos Supply: +5.5V; Ron (ohms): 52, 85; t ON: 70ns, 100ns; DatasheetVersion: Rev. A; PackageVersion: Nov-02; PackageReference: RU-16; PackageDescription: 16-Pin Thin Shrink Small Outline Package, Body 5 x 4.4 mm, Pitch 0.65 mm; Supplier 1: Digi-Key; Supplier Part Number 1: ADG633YRUZ-ND; Supplier 2: Farnell; Supplier Part Number 2: 1438894; Supplier 3: Newark; Supplier Part Number 3: 12M7820; Supplier 4: Mouser; Supplier Part Number 4: 584-ADG633YRUZ; Configuration: SPDT; Packing: Tube; Mounting Technology: Surface Mount; Code_JEDEC: MO-153AB; ComponentLink1Description: Manufacturer URL; ComponentLink1URL: http://www.analog.com/en/index.html; ComponentLink2Description: Datasheet; ComponentLink2URL: http://www.analog.com/static/imported-files/data_sheets/ADG633.pdf; ComponentLink3Description: Package Specification; ComponentLink3URL: http:/www.analog.com/static/imported-files/packages/36244347913743854010197452789RU16.pdf
footprint ADI-RU-16_N (SOP, 16-Leads, Body 5x4.4mm, Pitch 0.65mm, IPC Medium Density)
footprint ADI-RU-16_L (SOP, 16-Leads, Body 5x4.4mm, Pitch 0.65mm, IPC High Density)
footprint ADI-RU-16_M (SOP, 16-Leads, Body 5x4.4mm, Pitch 0.65mm, IPC Low Density)
pins: 1 S2B "Source Terminal of Multiplexer 2. Can be an input or output.", 2 S2A "Source Terminal of Multiplexer 2. Can be an input or output.", 3 S3B "Source Terminal of Multiplexer 3. Can be an input or output.", 4 D3 "Drain Terminal of Multiplexer 3. Can be an input or output.", 5 S3A "Source Terminal of Multiplexer 3. Can be an input or output.", 6 ~{EN} (in) "Digital Control Input. Disables all multiplexers when set high.", 7 VSS (power) "Most Negative Power Supply Terminal. Tie this pin to GND when using the device with single-supply voltages.", 8 GND (power) "Ground (0 V) Reference.", 9 A2 (in) "Digital Control Input.", 10 A1 (in) "Digital Control Input.", 11 A0 (in) "Digital Control Input.", 12 S1A "Source Terminal of Multiplexer 1. Can be an input or output.", 13 S1B "Source Terminal of Multiplexer 1. Can be an input or output.", 14 D1 "Drain Terminal of Multiplexer 1. Can be an input or output.", 15 D2 "Drain Terminal of Multiplexer 2. Can be an input or output.", 16 VDD (power) "Most Positive Power Supply Terminal."

## ADG633YRUZ-REEL7
designator U?
CMOS, +/-5 V / 5 V / 3 V, Triple SPDT Switches, 52 Ohm Ron, 16-pin SOP (RU-16), Reel; Manufacturer: Analog Devices; PartNumber: ADG633YRUZ-REEL7; # Sw Functions: 3; Max Neg Supply: -5.5V; Max Pos Supply: +5.5V; Ron (ohms): 52, 85; t ON: 70ns, 100ns; DatasheetVersion: Rev. A; PackageVersion: Nov-02; PackageReference: RU-16; PackageDescription: 16-Pin Thin Shrink Small Outline Package, Body 5 x 4.4 mm, Pitch 0.65 mm; Supplier 1: Digi-Key; Supplier Part Number 1: ADG633YRUZ-REEL7TR-ND; Supplier 2: Digi-Key; Supplier Part Number 2: ADG633YRUZ-REEL7CT-ND; Supplier 3: Digi-Key; Supplier Part Number 3: ADG633YRUZ-REEL7DKR-ND; Supplier 4: Newark; Supplier Part Number 4: 12M7821; Supplier 5: Mouser; Supplier Part Number 5: 584-ADG633YRUZ-R7; Configuration: SPDT; Packing: Reel; Mounting Technology: Surface Mount; Code_JEDEC: MO-153AB; ComponentLink1Description: Manufacturer URL; ComponentLink1URL: http://www.analog.com/en/index.html; ComponentLink2Description: Datasheet; ComponentLink2URL: http://www.analog.com/static/imported-files/data_sheets/ADG633.pdf; ComponentLink3Description: Package Specification; ComponentLink3URL: http:/www.analog.com/static/imported-files/packages/36244347913743854010197452789RU16.pdf
footprint ADI-RU-16_N (SOP, 16-Leads, Body 5x4.4mm, Pitch 0.65mm, IPC Medium Density)
footprint ADI-RU-16_L (SOP, 16-Leads, Body 5x4.4mm, Pitch 0.65mm, IPC High Density)
footprint ADI-RU-16_M (SOP, 16-Leads, Body 5x4.4mm, Pitch 0.65mm, IPC Low Density)
pins: 1 S2B "Source Terminal of Multiplexer 2. Can be an input or output.", 2 S2A "Source Terminal of Multiplexer 2. Can be an input or output.", 3 S3B "Source Terminal of Multiplexer 3. Can be an input or output.", 4 D3 "Drain Terminal of Multiplexer 3. Can be an input or output.", 5 S3A "Source Terminal of Multiplexer 3. Can be an input or output.", 6 ~{EN} (in) "Digital Control Input. Disables all multiplexers when set high.", 7 VSS (power) "Most Negative Power Supply Terminal. Tie this pin to GND when using the device with single-supply voltages.", 8 GND (power) "Ground (0 V) Reference.", 9 A2 (in) "Digital Control Input.", 10 A1 (in) "Digital Control Input.", 11 A0 (in) "Digital Control Input.", 12 S1A "Source Terminal of Multiplexer 1. Can be an input or output.", 13 S1B "Source Terminal of Multiplexer 1. Can be an input or output.", 14 D1 "Drain Terminal of Multiplexer 1. Can be an input or output.", 15 D2 "Drain Terminal of Multiplexer 2. Can be an input or output.", 16 VDD (power) "Most Positive Power Supply Terminal."

## ADG636YRU
designator U?
1 pC Charge Injection, 100 pA Leakage, CMOS, +/-5 V / 5 V / 3 V Dual SPDT Switches, 85 Ohm Ron, 14-pin SOP (RU-14), Tube; Manufacturer: Analog Devices; PartNumber: ADG636YRU; # Sw Functions: 2; Max Neg Supply: -5.5V; Max Pos Supply: +5.5V; Ron (ohms): 85, 210; t ON: 100ns, 135ns; DatasheetVersion: Rev. B; PackageVersion: Aug-02; PackageReference: RU-14; PackageDescription: 14-Pin Thin Shrink Small Outline Package, Body 5 x 4.4 mm, Pitch 0.65 mm; Supplier 1: Digi-Key; Supplier Part Number 1: ADG636YRU-ND; Configuration: SPDT; Packing: Tube; Mounting Technology: Surface Mount; Code_JEDEC: MO-153AB-1; ComponentLink1Description: Manufacturer URL; ComponentLink1URL: http://www.analog.com/en/index.html; ComponentLink2Description: Datasheet; ComponentLink2URL: http://www.analog.com/static/imported-files/data_sheets/ADG636.pdf; ComponentLink3Description: Package Specification; ComponentLink3URL: http://www.analog.com/static/imported-files/packages/36057385283879153717235186773RU14.pdf
footprint ADI-RU-14_N (SOP, 14-Leads, Body 5x4.4mm, Pitch 0.65mm, IPC Medium Density)
footprint ADI-RU-14_L (SOP, 14-Leads, Body 5x4.4mm, Pitch 0.65mm, IPC High Density)
footprint ADI-RU-14_M (SOP, 14-Leads, Body 5x4.4mm, Pitch 0.65mm, IPC Low Density)
pins: 1 A0 (in) "Digital Input (LSB).", 2 EN (in) "Active High Digital Input.", 3 VSS (power) "Negative Power Supply. For single-supply operation, connect this pin to GND.", 4 S1A "Source Terminal. Can be an input or output.", 5 S1B "Source Terminal. Can be an input or output.", 6 D1 "Drain Terminal. Can be an input or output.", 7 NC "Not Electrically Connected.", 8 NC "Not Electrically Connected.", 9 D2 "Drain Terminal. Can be an input or output.", 10 S2B "Source Terminal. Can be an input or output.", 11 S2A "Source Terminal. Can be an input or output.", 12 VDD (power) "Positive Power Supply.", 13 GND (power) "Ground (0 V) Power Supply.", 14 A1 (in) "Digital Input (MSB)."

## ADG636YRU-REEL
designator U?
1 pC Charge Injection, 100 pA Leakage, CMOS, +/-5 V / 5 V / 3 V Dual SPDT Switches, 85 Ohm Ron, 14-pin SOP (RU-14), Reel; Manufacturer: Analog Devices; PartNumber: ADG636YRU-REEL; # Sw Functions: 2; Max Neg Supply: -5.5V; Max Pos Supply: +5.5V; Ron (ohms): 85, 210; t ON: 100ns, 135ns; DatasheetVersion: Rev. B; PackageVersion: Aug-02; PackageReference: RU-14; PackageDescription: 14-Pin Thin Shrink Small Outline Package, Body 5 x 4.4 mm, Pitch 0.65 mm; Supplier 1: Digi-Key; Supplier Part Number 1: ADG636YRU-REELTR-ND; Supplier 2: Digi-Key; Supplier Part Number 2: ADG636YRU-REELCT-ND; Supplier 3: Digi-Key; Supplier Part Number 3: ADG636YRU-REELDKR-ND; Supplier 4: Newark; Supplier Part Number 4: 02H0864; Supplier 5: Mouser; Supplier Part Number 5: 584-ADG636YRU-R; Configuration: SPDT; Packing: Reel; Mounting Technology: Surface Mount; Code_JEDEC: MO-153AB-1; ComponentLink1Description: Manufacturer URL; ComponentLink1URL: http://www.analog.com/en/index.html; ComponentLink2Description: Datasheet; ComponentLink2URL: http://www.analog.com/static/imported-files/data_sheets/ADG636.pdf; ComponentLink3Description: Package Specification; ComponentLink3URL: http://www.analog.com/static/imported-files/packages/36057385283879153717235186773RU14.pdf
footprint ADI-RU-14_N (SOP, 14-Leads, Body 5x4.4mm, Pitch 0.65mm, IPC Medium Density)
footprint ADI-RU-14_L (SOP, 14-Leads, Body 5x4.4mm, Pitch 0.65mm, IPC High Density)
footprint ADI-RU-14_M (SOP, 14-Leads, Body 5x4.4mm, Pitch 0.65mm, IPC Low Density)
pins: 1 A0 (in) "Digital Input (LSB).", 2 EN (in) "Active High Digital Input.", 3 VSS (power) "Negative Power Supply. For single-supply operation, connect this pin to GND.", 4 S1A "Source Terminal. Can be an input or output.", 5 S1B "Source Terminal. Can be an input or output.", 6 D1 "Drain Terminal. Can be an input or output.", 7 NC "Not Electrically Connected.", 8 NC "Not Electrically Connected.", 9 D2 "Drain Terminal. Can be an input or output.", 10 S2B "Source Terminal. Can be an input or output.", 11 S2A "Source Terminal. Can be an input or output.", 12 VDD (power) "Positive Power Supply.", 13 GND (power) "Ground (0 V) Power Supply.", 14 A1 (in) "Digital Input (MSB)."

## ADG636YRUZ
designator U?
1 pC Charge Injection, 100 pA Leakage, CMOS, +/-5 V / 5 V / 3 V Dual SPDT Switches, 85 Ohm Ron, 14-pin SOP (RU-14), Tube; Manufacturer: Analog Devices; PartNumber: ADG636YRUZ; # Sw Functions: 2; Max Neg Supply: -5.5V; Max Pos Supply: +5.5V; Ron (ohms): 85, 210; t ON: 100ns, 135ns; DatasheetVersion: Rev. B; PackageVersion: Aug-02; PackageReference: RU-14; PackageDescription: 14-Pin Thin Shrink Small Outline Package, Body 5 x 4.4 mm, Pitch 0.65 mm; Supplier 1: Digi-Key; Supplier Part Number 1: ADG636YRUZ-ND; Supplier 2: Farnell; Supplier Part Number 2: 1438895; Supplier 3: Newark; Supplier Part Number 3: 12M7822; Supplier 4: Mouser; Supplier Part Number 4: 584-ADG636YRUZ; Configuration: SPDT; Packing: Tube; Mounting Technology: Surface Mount; Code_JEDEC: MO-153AB-1; ComponentLink1Description: Manufacturer URL; ComponentLink1URL: http://www.analog.com/en/index.html; ComponentLink2Description: Datasheet; ComponentLink2URL: http://www.analog.com/static/imported-files/data_sheets/ADG636.pdf; ComponentLink3Description: Package Specification; ComponentLink3URL: http://www.analog.com/static/imported-files/packages/36057385283879153717235186773RU14.pdf
footprint ADI-RU-14_N (SOP, 14-Leads, Body 5x4.4mm, Pitch 0.65mm, IPC Medium Density)
footprint ADI-RU-14_L (SOP, 14-Leads, Body 5x4.4mm, Pitch 0.65mm, IPC High Density)
footprint ADI-RU-14_M (SOP, 14-Leads, Body 5x4.4mm, Pitch 0.65mm, IPC Low Density)
pins: 1 A0 (in) "Digital Input (LSB).", 2 EN (in) "Active High Digital Input.", 3 VSS (power) "Negative Power Supply. For single-supply operation, connect this pin to GND.", 4 S1A "Source Terminal. Can be an input or output.", 5 S1B "Source Terminal. Can be an input or output.", 6 D1 "Drain Terminal. Can be an input or output.", 7 NC "Not Electrically Connected.", 8 NC "Not Electrically Connected.", 9 D2 "Drain Terminal. Can be an input or output.", 10 S2B "Source Terminal. Can be an input or output.", 11 S2A "Source Terminal. Can be an input or output.", 12 VDD (power) "Positive Power Supply.", 13 GND (power) "Ground (0 V) Power Supply.", 14 A1 (in) "Digital Input (MSB)."

## ADG636YRUZ-REEL
designator U?
1 pC Charge Injection, 100 pA Leakage, CMOS, +/-5 V / 5 V / 3 V Dual SPDT Switches, 85 Ohm Ron, 14-pin SOP (RU-14), Reel; Manufacturer: Analog Devices; PartNumber: ADG636YRUZ-REEL; # Sw Functions: 2; Max Neg Supply: -5.5V; Max Pos Supply: +5.5V; Ron (ohms): 85, 210; t ON: 100ns, 135ns; DatasheetVersion: Rev. B; PackageVersion: Aug-02; PackageReference: RU-14; PackageDescription: 14-Pin Thin Shrink Small Outline Package, Body 5 x 4.4 mm, Pitch 0.65 mm; Supplier 1: Digi-Key; Supplier Part Number 1: ADG636YRUZ-REEL-ND; Supplier 2: Mouser; Supplier Part Number 2: 584-ADG636YRUZ-R; Configuration: SPDT; Packing: Reel; Mounting Technology: Surface Mount; Code_JEDEC: MO-153AB-1; ComponentLink1Description: Manufacturer URL; ComponentLink1URL: http://www.analog.com/en/index.html; ComponentLink2Description: Datasheet; ComponentLink2URL: http://www.analog.com/static/imported-files/data_sheets/ADG636.pdf; ComponentLink3Description: Package Specification; ComponentLink3URL: http://www.analog.com/static/imported-files/packages/36057385283879153717235186773RU14.pdf
footprint ADI-RU-14_N (SOP, 14-Leads, Body 5x4.4mm, Pitch 0.65mm, IPC Medium Density)
footprint ADI-RU-14_L (SOP, 14-Leads, Body 5x4.4mm, Pitch 0.65mm, IPC High Density)
footprint ADI-RU-14_M (SOP, 14-Leads, Body 5x4.4mm, Pitch 0.65mm, IPC Low Density)
pins: 1 A0 (in) "Digital Input (LSB).", 2 EN (in) "Active High Digital Input.", 3 VSS (power) "Negative Power Supply. For single-supply operation, connect this pin to GND.", 4 S1A "Source Terminal. Can be an input or output.", 5 S1B "Source Terminal. Can be an input or output.", 6 D1 "Drain Terminal. Can be an input or output.", 7 NC "Not Electrically Connected.", 8 NC "Not Electrically Connected.", 9 D2 "Drain Terminal. Can be an input or output.", 10 S2B "Source Terminal. Can be an input or output.", 11 S2A "Source Terminal. Can be an input or output.", 12 VDD (power) "Positive Power Supply.", 13 GND (power) "Ground (0 V) Power Supply.", 14 A1 (in) "Digital Input (MSB)."

## ADG636YRUZ-REEL7
designator U?
1 pC Charge Injection, 100 pA Leakage, CMOS, +/-5 V / 5 V / 3 V Dual SPDT Switches, 85 Ohm Ron, 14-pin SOP (RU-14), Reel; Manufacturer: Analog Devices; PartNumber: ADG636YRUZ-REEL7; # Sw Functions: 2; Max Neg Supply: -5.5V; Max Pos Supply: +5.5V; Ron (ohms): 85, 210; t ON: 100ns, 135ns; DatasheetVersion: Rev. B; PackageVersion: Aug-02; PackageReference: RU-14; PackageDescription: 14-Pin Thin Shrink Small Outline Package, Body 5 x 4.4 mm, Pitch 0.65 mm; Supplier 1: Digi-Key; Supplier Part Number 1: ADG636YRUZ-REEL7-ND; Supplier 2: Newark; Supplier Part Number 2: 59K1453; Supplier 3: Mouser; Supplier Part Number 3: 584-ADG636YRUZ-R7; Configuration: SPDT; Packing: Reel; Mounting Technology: Surface Mount; Code_JEDEC: MO-153AB-1; ComponentLink1Description: Manufacturer URL; ComponentLink1URL: http://www.analog.com/en/index.html; ComponentLink2Description: Datasheet; ComponentLink2URL: http://www.analog.com/static/imported-files/data_sheets/ADG636.pdf; ComponentLink3Description: Package Specification; ComponentLink3URL: http://www.analog.com/static/imported-files/packages/36057385283879153717235186773RU14.pdf
footprint ADI-RU-14_N (SOP, 14-Leads, Body 5x4.4mm, Pitch 0.65mm, IPC Medium Density)
footprint ADI-RU-14_L (SOP, 14-Leads, Body 5x4.4mm, Pitch 0.65mm, IPC High Density)
footprint ADI-RU-14_M (SOP, 14-Leads, Body 5x4.4mm, Pitch 0.65mm, IPC Low Density)
pins: 1 A0 (in) "Digital Input (LSB).", 2 EN (in) "Active High Digital Input.", 3 VSS (power) "Negative Power Supply. For single-supply operation, connect this pin to GND.", 4 S1A "Source Terminal. Can be an input or output.", 5 S1B "Source Terminal. Can be an input or output.", 6 D1 "Drain Terminal. Can be an input or output.", 7 NC "Not Electrically Connected.", 8 NC "Not Electrically Connected.", 9 D2 "Drain Terminal. Can be an input or output.", 10 S2B "Source Terminal. Can be an input or output.", 11 S2A "Source Terminal. Can be an input or output.", 12 VDD (power) "Positive Power Supply.", 13 GND (power) "Ground (0 V) Power Supply.", 14 A1 (in) "Digital Input (MSB)."